# Altium footprint library adafruit.PCBLIB: 643 footprints (part 5 of 41)
Each footprint in its own frame and in the unit in brackets; x right, y up, seen from the top. Pads: shape width x height; smd on the part's side, far side on the other; paste and mask are expansions set on the pad; w line width, h text height; cw(c..) or ccw(c..) is an arc to the next point about the centre after c.
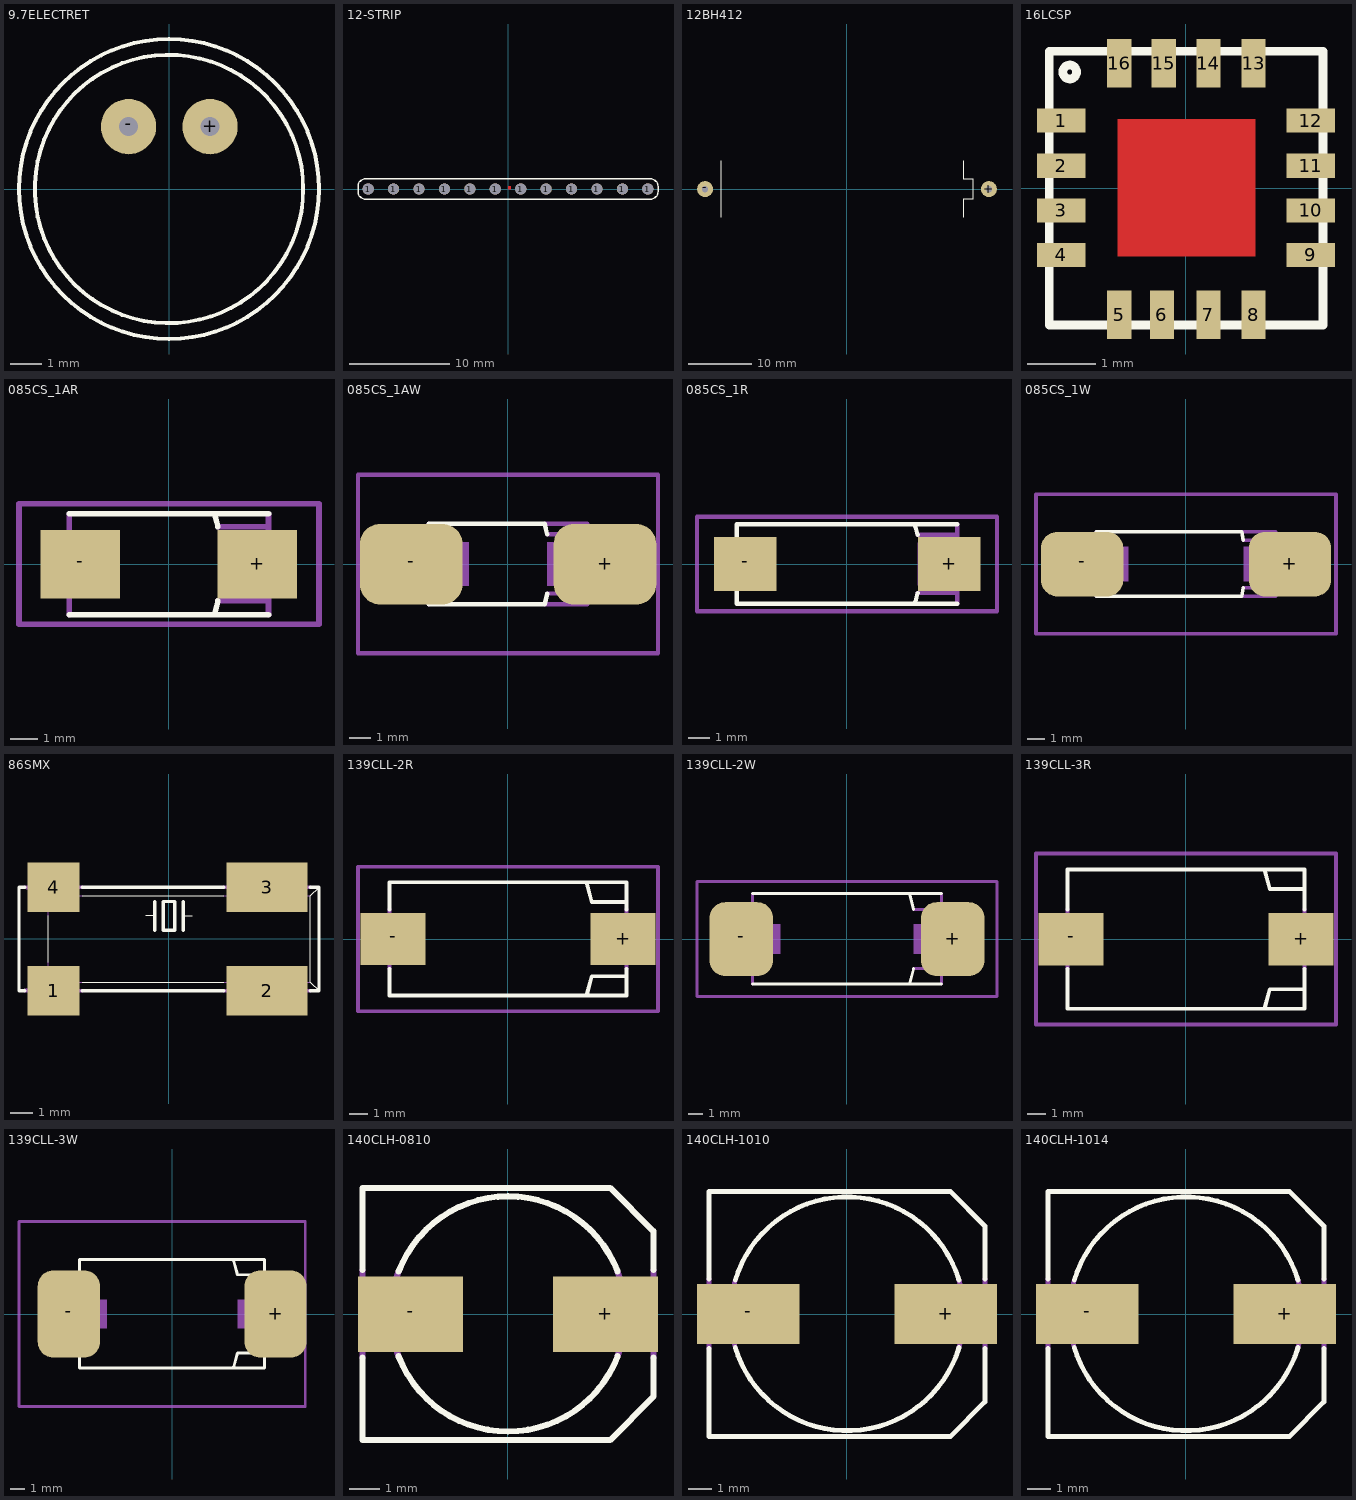
[diagram p4: the footprints below, top view; thin cyan lines are the x and y axes]

## 9.7ELECTRET [mil]
pads (2):
  round 70 hole 24: +(52,79) -(-51.18,79)
Top Overlay:
  circle w5: c0,0 r190
  circle w5: c0,0 r170

## 12-STRIP [mil]
pads (12):
  round 44 hole 44: 1(-550,0) 1(-450,0) 1(-350,0) 1(-250,0) 1(-150,0) 1(-50,0) 1(50,0) 1(150,0) 1(250,0) 1(350,0) 1(450,0) 1(550,0)
Top Layer:
  region: 0,0 10,0 10,10 0,10
Bottom Layer:
  region: 0,0 10,0 10,10 0,10
Top Overlay:
  lines w5: -590,-10 ccw(c-560,-10) -560,-40 560,-40 ccw(c560,-10) 590,-10 590,10 ccw(c560,10) 560,40 -560,40 ccw(c-560,10) -590,10 -590,-10
Top Solder:
  region: 0,0 10,0 10,10 0,10
Bottom Solder:
  region: 0,0 10,0 10,10 0,10

## 12BH412 [mil]
pads (2):
  round 100 hole 40: +(886,0) -(-885.83,0)
Top Overlay:
  lines w5: -787.4,-177.17 -787.4,178 ; 729,-177.17 729,-59.06 788,-59.06 788,60 729,60 729,178

## 16LCSP [mil]
pads (16):
  rect 28x14 smd: 1(-71.85,39) 2(-71.85,13) 3(-71.85,-12.8) 4(-71.85,-38.39) 9(72,-38.39) 10(72,-12.8) 11(72,13) 12(72,39)
  rect 14x28 smd: 5(-38.39,-72.83) 6(-13.78,-72.83) 7(13,-72.83) 8(39,-72.83) 13(39,72) 14(13,72) 15(-12.8,72) 16(-38.39,72)
Top Layer:
  rectangle: -39.37,-39.37 40,40
Top Overlay:
  circle w5: c-66.93,67 r4
  lines w5: -78.74,-78.74 79,-78.74 79,79 -78.74,79 -78.74,-78.74
Top Paste:
  rectangle: -39.37,-39.37 -11.81,-11.81
  rectangle: -39.37,12 -11.81,40
  rectangle: 12,12 40,40
  rectangle: 12,-39.37 40,-11.81
Top Solder:
  rectangle: -39.37,-39.37 40,40

## 085CS_1AR [mil]
pads (2):
  rect 115x99 smd: +(128,0) -(-127.95,0)
Top Overlay:
  lines w8: -143.7,-72.83 144,-72.83 ; -143.7,73 144,73 ; 67,-68.9 71,-53.15 ; 67,69 71,54
Courtyard Bottom:
  rectangle: 71,-39.37 164,40
  rectangle: -163.39,-39.37 -70.87,40
  lines w4: -175.2,-27.56 -175.2,28 -165.35,38 -165.35,-37.4 -175.2,-27.56 ; 166,-37.4 176,-27.56 176,28 166,38 166,-37.4
  lines w8: -169.29,-29.53 -169.29,30 ; -143.7,-72.83 -143.7,73 ; 71,-53.15 142,-53.15 ; 71,54 140,54 ; 144,-72.83 144,73 ; 170,-29.53 170,30
Mech37:
  lines w8: -216.54,-86.61 -216.54,87 217,87 217,-86.61 -216.54,-86.61

## 085CS_1AW [mil]
pads (2):
  rrect50% 186x146 smd: +(176,0) -(-175.2,0)
Top Overlay:
  lines w8: -143.7,-72.83 67,-72.83 71,-53.15 ; -143.7,73 67,73 71,54
Courtyard Bottom:
  rectangle: 71,-39.37 164,40
  rectangle: -163.39,-39.37 -70.87,40
  lines w4: -175.2,-27.56 -175.2,28 -165.35,38 -165.35,-37.4 -175.2,-27.56 ; 166,-37.4 176,-27.56 176,28 166,38 166,-37.4
  lines w8: -169.29,-29.53 -169.29,30 ; -143.7,-72.83 -143.7,73 ; 67,-72.83 144,-72.83 144,73 67,73 ; 71,-53.15 142,-53.15 ; 71,54 140,54 ; 170,-29.53 170,30
Mech37:
  lines w8: -271.65,-161.42 -271.65,162 272,162 272,-161.42 -271.65,-161.42

## 085CS_1R [mil]
pads (2):
  rect 115x99 smd: +(188,0) -(-187.01,0)
Top Overlay:
  lines w8: 126,-68.9 130,-53.15 ; 126,69 130,54 ; 203,-72.83 -202.76,-72.83 -202.76,73 203,73
Courtyard Bottom:
  rectangle: 130,-39.37 223,40
  rectangle: -222.44,-39.37 -129.92,40
  lines w4: -234.25,-27.56 -234.25,28 -224.41,38 -224.41,-37.4 -234.25,-27.56 ; 225,-37.4 235,-27.56 235,28 225,38 225,-37.4
  lines w8: -228.35,-29.53 -228.35,30 ; 130,-53.15 201,-53.15 ; 130,54 199,54 ; 203,-72.83 203,73 ; 229,-29.53 229,30
Mech37:
  lines w8: -275.59,-86.61 -275.59,87 276,87 276,-86.61 -275.59,-86.61

## 085CS_1W [mil]
pads (2):
  rrect50% 186x146 smd: +(235,0) -(-234.25,0)
Top Overlay:
  lines w8: -202.76,-72.83 126,-72.83 130,-53.15 ; -202.76,73 126,73 130,54
Courtyard Bottom:
  rectangle: 130,-39.37 223,40
  rectangle: -222.44,-39.37 -129.92,40
  lines w4: -234.25,-27.56 -234.25,28 -224.41,38 -224.41,-37.4 -234.25,-27.56 ; 225,-37.4 235,-27.56 235,28 225,38 225,-37.4
  lines w8: -228.35,-29.53 -228.35,30 ; -202.76,-72.83 -202.76,73 ; 126,-72.83 203,-72.83 203,73 126,73 ; 130,-53.15 201,-53.15 ; 130,54 199,54 ; 229,-29.53 229,30
Mech37:
  lines w8: -338.58,-157.48 -338.58,158 339,158 339,-157.48 -338.58,-157.48

## 86SMX [mil]
pads (4):
  rect 90x86 smd: 1(-200,-90) 4(-200,90)
  rect 140x86 smd: 2(170,-90) 3(170,90)
Top Overlay:
  lines w2: -260,-90 -250,-87 ; -260,90 -250,87 ; -210,-40 -210,40 ; -150,-75 95,-75 ; -150,75 95,75 ; -40,40 -25,40 ; 25,40 40,40 ; 260,-90 245,-75 245,75 260,90
  lines w6: -250,-90 -260,-90 -260,90 -250,90 ; -150,-90 95,-90 ; -150,90 95,90 ; -25,15 -25,40 -25,65 ; 25,15 25,40 25,65 ; 245,-90 260,-90 260,90 245,90 ; -10,15 -10,65 10,65 10,15 -10,15
Courtyard Bottom:
  lines w2: -250,-87 -210,-75 ; -250,87 -210,75 ; -210,-40 -210,-75 ; -210,40 -210,75 ; -150,-75 -210,-75 ; -150,75 -210,75 ; 95,-75 245,-75 ; 95,75 245,75
  lines w6: -250,-90 -235,-90 ; -250,90 -235,90 ; -150,-90 -165,-90 ; -150,90 -165,90 ; 95,-90 245,-90 ; 95,90 245,90 ; 110,-90 110,-100 230,-100 230,-90 ; 110,90 110,100 230,100 230,90 ; -235,-90 -165,-90 ; -235,-90 -235,-100 -165,-100 -165,-90 ; -235,90 -165,90 ; -235,90 -235,100 -165,100 -165,90

## 139CLL-2R [mil]
pads (2):
  rect 138x111 smd: +(245,0) -(-244.09,0)
Top Overlay:
  lines w8: -251.97,-62.99 -251.97,-120.08 252,-120.08 252,-62.99 ; -251.97,63 -251.97,121 252,121 252,63 ; 168,-116.14 178,-78.74 250,-78.74 ; 168,117 178,79 250,79
Courtyard Bottom:
  rectangle: 178,-39.37 270,40
  rectangle: -269.69,-39.37 -177.17,40
  lines w8: -251.97,-62.99 -251.97,63 ; 252,-62.99 252,63
  lines w10: -281.5,-23.62 -271.65,-33.46 -271.65,34 -281.5,24 -281.5,-23.62 ; 272,-33.46 282,-23.62 282,24 272,34 272,-33.46
Mech37:
  lines w8: -318.9,-153.54 -318.9,154 319,154 319,-153.54 -318.9,-153.54

## 139CLL-2W [mil]
pads (2):
  rrect50% 170x197 smd: +(282,0) -(-281.5,0)
Top Overlay:
  lines w8: -251.97,-120.08 252,-120.08 ; -251.97,121 252,121 ; 168,-116.14 178,-78.74 ; 168,117 178,79
Courtyard Bottom:
  rectangle: 178,-39.37 270,40
  rectangle: -269.69,-39.37 -177.17,40
  lines w8: -251.97,-120.08 -251.97,121 ; 178,-78.74 250,-78.74 ; 178,79 250,79 ; 252,-120.08 252,121
  lines w10: -281.5,-23.62 -271.65,-33.46 -271.65,34 -281.5,24 -281.5,-23.62 ; 272,-33.46 282,-23.62 282,24 272,34 272,-33.46
Mech37:
  lines w8: -399.61,-153.54 -399.61,154 400,154 400,-153.54 -399.61,-153.54

## 139CLL-3R [mil]
pads (2):
  rect 138x111 smd: +(245,0) -(-244.09,0)
Top Overlay:
  lines w8: -251.97,-62.99 -251.97,-147.64 252,-147.64 252,-62.99 ; -251.97,63 -251.97,148 252,148 252,63 ; 168,-143.7 178,-106.3 250,-106.3 ; 168,144 178,107 250,107
Courtyard Bottom:
  rectangle: 178,-39.37 270,40
  rectangle: -269.69,-39.37 -177.17,40
  lines w8: -251.97,-62.99 -251.97,63 ; 252,-62.99 252,63
  lines w10: -281.5,-23.62 -271.65,-33.46 -271.65,34 -281.5,24 -281.5,-23.62 ; 272,-33.46 282,-23.62 282,24 272,34 272,-33.46
Mech37:
  lines w8: -318.9,-181.1 -318.9,182 319,182 319,-181.1 -318.9,-181.1

## 139CLL-3W [mil]
pads (2):
  rrect50% 170x237 smd: +(282,0) -(-281.5,0)
Top Overlay:
  lines w8: -251.97,-62.99 -251.97,-147.64 252,-147.64 252,-62.99 ; -251.97,63 -251.97,148 252,148 252,63 ; 168,-143.7 178,-106.3 250,-106.3 ; 168,144 178,107 250,107
Courtyard Bottom:
  rectangle: 178,-39.37 270,40
  rectangle: -269.69,-39.37 -177.17,40
  lines w8: -251.97,-62.99 -251.97,63 ; 252,-62.99 252,63
  lines w10: -281.5,-23.62 -271.65,-33.46 -271.65,34 -281.5,24 -281.5,-23.62 ; 272,-33.46 282,-23.62 282,24 272,34 272,-33.46
Mech37:
  lines w8: -417.32,-251.97 -417.32,252 363,252 363,-251.97 -417.32,-251.97

## 140CLH-0810 [mil]
pads (2):
  rect 138x99 smd: +(128,0) -(-127.95,0)
Top Overlay:
  lines w8: -190.94,-57.09 -190.94,-165.35 134,-165.35 191,-108.27 191,-57.09 ; -190.94,58 -190.94,166 134,166 191,109 191,58 ; -143.7,-55.12 ccw(c0.15,0.06) 144,-55.12 ; -143.7,56 cw(c0.15,0.82) 144,56
Courtyard Bottom:
  lines w8: -190.94,-57.09 -190.94,58 ; -143.7,-55.12 cw(c1.15,0.44) -143.7,56 ; 144,-55.12 ccw(c-0.85,0.44) 144,56 ; 191,-57.09 191,58

## 140CLH-1010 [mil]
pads (2):
  rect 170x99 smd: +(164,0) -(-163.39,0)
Top Overlay:
  lines w8: -228.35,-57.09 -228.35,-202.76 172,-202.76 229,-145.67 229,-57.09 ; -228.35,58 -228.35,203 172,203 229,146 229,58 ; -185.04,-55.12 ccw(c0.48,0.14) 186,-55.12 ; -185.04,56 cw(c0.48,0.74) 186,56
Courtyard Bottom:
  lines w8: -228.35,-57.09 -228.35,58 ; -185.04,-55.12 cw(c1.48,0.44) -185.04,56 ; 186,-55.12 ccw(c-0.52,0.44) 186,56 ; 229,-57.09 229,58

## 140CLH-1014 [mil]
pads (2):
  rect 170x99 smd: +(164,0) -(-163.39,0)
Top Overlay:
  lines w8: -228.35,-57.09 -228.35,-202.76 172,-202.76 229,-145.67 229,-57.09 ; -228.35,58 -228.35,203 172,203 229,146 229,58 ; -185.04,-55.12 ccw(c0.48,0.14) 186,-55.12 ; -185.04,56 cw(c0.48,0.74) 186,56
Courtyard Bottom:
  lines w8: -228.35,-57.09 -228.35,58 ; -185.04,-55.12 cw(c1.48,0.44) -185.04,56 ; 186,-55.12 ccw(c-0.52,0.44) 186,56 ; 229,-57.09 229,58